# EAGLE library part FSA221L10X (library m_ic-comm)
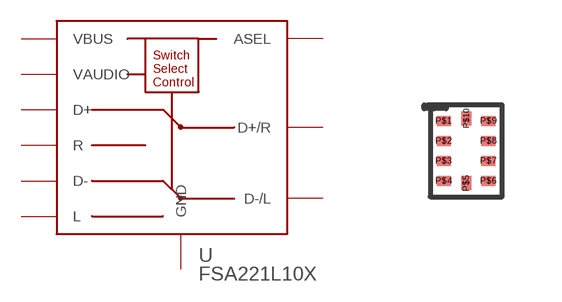
[diagram p11: symbol with the pads of 10-LEAD-MICRO-PAK; footprint 10-LEAD-MICRO-PAK]

Designator prefix U

## FSA221L10X (MANUF: OnSemiconductor; PARTNUM: FSA221L10X)  [10-LEAD-MICRO-PAK]
P$1  D+
P$2  D-
P$3  R
P$4  L
P$5  GND
P$6  VAUDIO
P$7  D-/L
P$8  D+/R
P$9  ASEL
P$10  VBUS

## Footprint 10-LEAD-MICRO-PAK (pad centres in mm)
smd 0.35 x 0.25: P$1 -0.56,0.75; P$2 -0.56,0.25; P$3 -0.56,-0.25; P$4 -0.56,-0.75; P$6 0.56,-0.75; P$7 0.56,-0.25; P$8 0.56,0.25; P$9 0.56,0.75
smd 0.25 x 0.35: P$5 0,-0.81; P$10 0,0.81